# Altium integrated library Zilog Peripheral Clock Generator.IntLib: 10 symbols
Pins are listed as number, name and electrical type; pins without a type are passive.

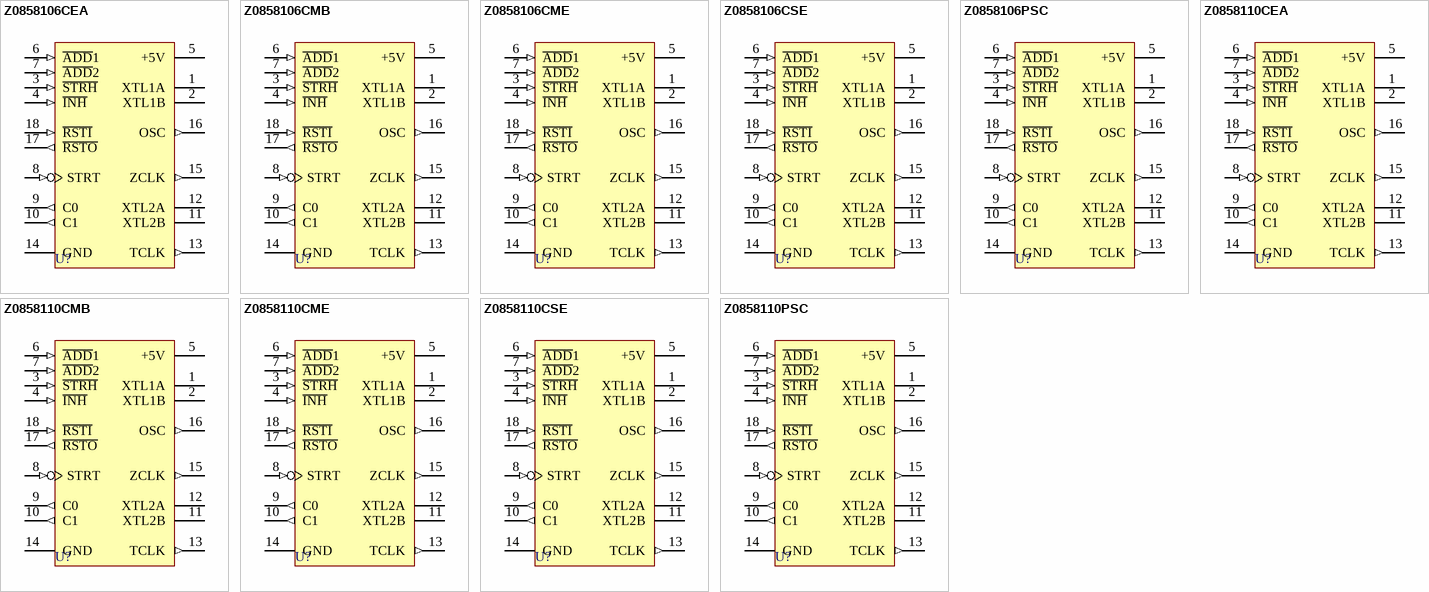
[diagram p0: symbols Z0858106CEA to Z0858110PSC]

## Z0858106CEA
designator U?
Clock Generator and Controller; Published: 15-Apr-2002; LatestRevisionDate: 04-Mar-2005; LatestRevisionNote: Stylized 3D Model Added.; DatasheetVersion: Oct-1988; PackageVersion: 2001; PackageReference: CDIP18; Publisher: Altium Limited; PackageDescription: DIP; 18 Leads; Row Spacing 7.62 mm; Pitch 2.54 mm; ComponentLink1Description: Manufacturer Link; ComponentLink1URL: http://www.zilog.com/
footprint CDIP18 (DIP; 18 Leads; Row Spacing 7.62 mm; Pitch 2.54 mm)
3D model CDIP18 (DIP; 18 Leads; Row Spacing 7.62 mm; Pitch 2.54 mm)
pins: 1 XTL1A, 2 XTL1B, 3 ~{STRH} (in), 4 ~{INH} (in), 5 +5V (power), 6 ~{ADD}1 (in), 7 ~{ADD}2 (in), 8 STRT (in), 9 C0 (out), 10 C1 (out), 11 XTL2B, 12 XTL2A, 13 TCLK (out), 14 GND (power), 15 ZCLK (out), 16 OSC (out), 17 ~{RSTO} (out), 18 ~{RSTI} (in)

## Z0858106CMB
designator U?
Clock Generator and Controller; Published: 15-Apr-2002; LatestRevisionDate: 04-Mar-2005; LatestRevisionNote: Stylized 3D Model Added.; DatasheetVersion: Oct-1988; PackageVersion: 2001; PackageReference: CDIP18; Publisher: Altium Limited; PackageDescription: DIP; 18 Leads; Row Spacing 7.62 mm; Pitch 2.54 mm; ComponentLink1Description: Manufacturer Link; ComponentLink1URL: http://www.zilog.com/
footprint CDIP18 (DIP; 18 Leads; Row Spacing 7.62 mm; Pitch 2.54 mm)
3D model CDIP18 (DIP; 18 Leads; Row Spacing 7.62 mm; Pitch 2.54 mm)
pins: 1 XTL1A, 2 XTL1B, 3 ~{STRH} (in), 4 ~{INH} (in), 5 +5V (power), 6 ~{ADD}1 (in), 7 ~{ADD}2 (in), 8 STRT (in), 9 C0 (out), 10 C1 (out), 11 XTL2B, 12 XTL2A, 13 TCLK (out), 14 GND (power), 15 ZCLK (out), 16 OSC (out), 17 ~{RSTO} (out), 18 ~{RSTI} (in)

## Z0858106CME
designator U?
Clock Generator and Controller; Published: 15-Apr-2002; LatestRevisionDate: 04-Mar-2005; LatestRevisionNote: Stylized 3D Model Added.; DatasheetVersion: Oct-1988; PackageVersion: 2001; PackageReference: CDIP18; Publisher: Altium Limited; PackageDescription: DIP; 18 Leads; Row Spacing 7.62 mm; Pitch 2.54 mm; ComponentLink1Description: Manufacturer Link; ComponentLink1URL: http://www.zilog.com/
footprint CDIP18 (DIP; 18 Leads; Row Spacing 7.62 mm; Pitch 2.54 mm)
3D model CDIP18 (DIP; 18 Leads; Row Spacing 7.62 mm; Pitch 2.54 mm)
pins: 1 XTL1A, 2 XTL1B, 3 ~{STRH} (in), 4 ~{INH} (in), 5 +5V (power), 6 ~{ADD}1 (in), 7 ~{ADD}2 (in), 8 STRT (in), 9 C0 (out), 10 C1 (out), 11 XTL2B, 12 XTL2A, 13 TCLK (out), 14 GND (power), 15 ZCLK (out), 16 OSC (out), 17 ~{RSTO} (out), 18 ~{RSTI} (in)

## Z0858106CSE
designator U?
Clock Generator and Controller; Published: 15-Apr-2002; LatestRevisionDate: 04-Mar-2005; LatestRevisionNote: Stylized 3D Model Added.; DatasheetVersion: Oct-1988; PackageVersion: 2001; PackageReference: CDIP18; Publisher: Altium Limited; PackageDescription: DIP; 18 Leads; Row Spacing 7.62 mm; Pitch 2.54 mm; ComponentLink1Description: Manufacturer Link; ComponentLink1URL: http://www.zilog.com/
footprint CDIP18 (DIP; 18 Leads; Row Spacing 7.62 mm; Pitch 2.54 mm)
3D model CDIP18 (DIP; 18 Leads; Row Spacing 7.62 mm; Pitch 2.54 mm)
pins: 1 XTL1A, 2 XTL1B, 3 ~{STRH} (in), 4 ~{INH} (in), 5 +5V (power), 6 ~{ADD}1 (in), 7 ~{ADD}2 (in), 8 STRT (in), 9 C0 (out), 10 C1 (out), 11 XTL2B, 12 XTL2A, 13 TCLK (out), 14 GND (power), 15 ZCLK (out), 16 OSC (out), 17 ~{RSTO} (out), 18 ~{RSTI} (in)

## Z0858106PSC
designator U?
Clock Generator and Controller; Published: 15-Apr-2002; LatestRevisionDate: 04-Mar-2005; LatestRevisionNote: Stylized 3D Model Added.; DatasheetVersion: Oct-1988; PackageVersion: 2001; PackageReference: PDIP18; Publisher: Altium Limited; PackageDescription: DIP; 18 Leads; Row Spacing 7.62 mm; Pitch 2.54 mm; ComponentLink1Description: Manufacturer Link; ComponentLink1URL: http://www.zilog.com/
footprint PDIP18 (DIP; 18 Leads; Row Spacing 7.62 mm; Pitch 2.54 mm)
3D model CDIP18 (DIP; 18 Leads; Row Spacing 7.62 mm; Pitch 2.54 mm)
pins: 1 XTL1A, 2 XTL1B, 3 ~{STRH} (in), 4 ~{INH} (in), 5 +5V (power), 6 ~{ADD}1 (in), 7 ~{ADD}2 (in), 8 STRT (in), 9 C0 (out), 10 C1 (out), 11 XTL2B, 12 XTL2A, 13 TCLK (out), 14 GND (power), 15 ZCLK (out), 16 OSC (out), 17 ~{RSTO} (out), 18 ~{RSTI} (in)

## Z0858110CEA
designator U?
Clock Generator and Controller; Published: 15-Apr-2002; LatestRevisionDate: 04-Mar-2005; LatestRevisionNote: Stylized 3D Model Added.; DatasheetVersion: Oct-1988; PackageVersion: 2001; PackageReference: CDIP18; Publisher: Altium Limited; PackageDescription: DIP; 18 Leads; Row Spacing 7.62 mm; Pitch 2.54 mm; ComponentLink1Description: Manufacturer Link; ComponentLink1URL: http://www.zilog.com/
footprint CDIP18 (DIP; 18 Leads; Row Spacing 7.62 mm; Pitch 2.54 mm)
3D model CDIP18 (DIP; 18 Leads; Row Spacing 7.62 mm; Pitch 2.54 mm)
pins: 1 XTL1A, 2 XTL1B, 3 ~{STRH} (in), 4 ~{INH} (in), 5 +5V (power), 6 ~{ADD}1 (in), 7 ~{ADD}2 (in), 8 STRT (in), 9 C0 (out), 10 C1 (out), 11 XTL2B, 12 XTL2A, 13 TCLK (out), 14 GND (power), 15 ZCLK (out), 16 OSC (out), 17 ~{RSTO} (out), 18 ~{RSTI} (in)

## Z0858110CMB
designator U?
Clock Generator and Controller; Published: 15-Apr-2002; LatestRevisionDate: 04-Mar-2005; LatestRevisionNote: Stylized 3D Model Added.; DatasheetVersion: Oct-1988; PackageVersion: 2001; PackageReference: CDIP18; Publisher: Altium Limited; PackageDescription: DIP; 18 Leads; Row Spacing 7.62 mm; Pitch 2.54 mm; ComponentLink1Description: Manufacturer Link; ComponentLink1URL: http://www.zilog.com/
footprint CDIP18 (DIP; 18 Leads; Row Spacing 7.62 mm; Pitch 2.54 mm)
3D model CDIP18 (DIP; 18 Leads; Row Spacing 7.62 mm; Pitch 2.54 mm)
pins: 1 XTL1A, 2 XTL1B, 3 ~{STRH} (in), 4 ~{INH} (in), 5 +5V (power), 6 ~{ADD}1 (in), 7 ~{ADD}2 (in), 8 STRT (in), 9 C0 (out), 10 C1 (out), 11 XTL2B, 12 XTL2A, 13 TCLK (out), 14 GND (power), 15 ZCLK (out), 16 OSC (out), 17 ~{RSTO} (out), 18 ~{RSTI} (in)

## Z0858110CME
designator U?
Clock Generator and Controller; Published: 15-Apr-2002; LatestRevisionDate: 04-Mar-2005; LatestRevisionNote: Stylized 3D Model Added.; DatasheetVersion: Oct-1988; PackageVersion: 2001; PackageReference: CDIP18; Publisher: Altium Limited; PackageDescription: DIP; 18 Leads; Row Spacing 7.62 mm; Pitch 2.54 mm; ComponentLink1Description: Manufacturer Link; ComponentLink1URL: http://www.zilog.com/
footprint CDIP18 (DIP; 18 Leads; Row Spacing 7.62 mm; Pitch 2.54 mm)
3D model CDIP18 (DIP; 18 Leads; Row Spacing 7.62 mm; Pitch 2.54 mm)
pins: 1 XTL1A, 2 XTL1B, 3 ~{STRH} (in), 4 ~{INH} (in), 5 +5V (power), 6 ~{ADD}1 (in), 7 ~{ADD}2 (in), 8 STRT (in), 9 C0 (out), 10 C1 (out), 11 XTL2B, 12 XTL2A, 13 TCLK (out), 14 GND (power), 15 ZCLK (out), 16 OSC (out), 17 ~{RSTO} (out), 18 ~{RSTI} (in)

## Z0858110CSE
designator U?
Clock Generator and Controller; Published: 15-Apr-2002; LatestRevisionDate: 04-Mar-2005; LatestRevisionNote: Stylized 3D Model Added.; DatasheetVersion: Oct-1988; PackageVersion: 2001; PackageReference: CDIP18; Publisher: Altium Limited; PackageDescription: DIP; 18 Leads; Row Spacing 7.62 mm; Pitch 2.54 mm; ComponentLink1Description: Manufacturer Link; ComponentLink1URL: http://www.zilog.com/
footprint CDIP18 (DIP; 18 Leads; Row Spacing 7.62 mm; Pitch 2.54 mm)
3D model CDIP18 (DIP; 18 Leads; Row Spacing 7.62 mm; Pitch 2.54 mm)
pins: 1 XTL1A, 2 XTL1B, 3 ~{STRH} (in), 4 ~{INH} (in), 5 +5V (power), 6 ~{ADD}1 (in), 7 ~{ADD}2 (in), 8 STRT (in), 9 C0 (out), 10 C1 (out), 11 XTL2B, 12 XTL2A, 13 TCLK (out), 14 GND (power), 15 ZCLK (out), 16 OSC (out), 17 ~{RSTO} (out), 18 ~{RSTI} (in)

## Z0858110PSC
designator U?
Clock Generator and Controller; Published: 15-Apr-2002; LatestRevisionDate: 04-Mar-2005; LatestRevisionNote: Stylized 3D Model Added.; DatasheetVersion: Oct-1988; PackageVersion: 2001; PackageReference: PDIP18; Publisher: Altium Limited; PackageDescription: DIP; 18 Leads; Row Spacing 7.62 mm; Pitch 2.54 mm; ComponentLink1Description: Manufacturer Link; ComponentLink1URL: http://www.zilog.com/
footprint PDIP18 (DIP; 18 Leads; Row Spacing 7.62 mm; Pitch 2.54 mm)
3D model CDIP18 (DIP; 18 Leads; Row Spacing 7.62 mm; Pitch 2.54 mm)
pins: 1 XTL1A, 2 XTL1B, 3 ~{STRH} (in), 4 ~{INH} (in), 5 +5V (power), 6 ~{ADD}1 (in), 7 ~{ADD}2 (in), 8 STRT (in), 9 C0 (out), 10 C1 (out), 11 XTL2B, 12 XTL2A, 13 TCLK (out), 14 GND (power), 15 ZCLK (out), 16 OSC (out), 17 ~{RSTO} (out), 18 ~{RSTI} (in)